# Altium schematic symbol library Orion Sleep - Control Board - Rev 2.SCHLIB: 156 symbols (part 3 of 3)
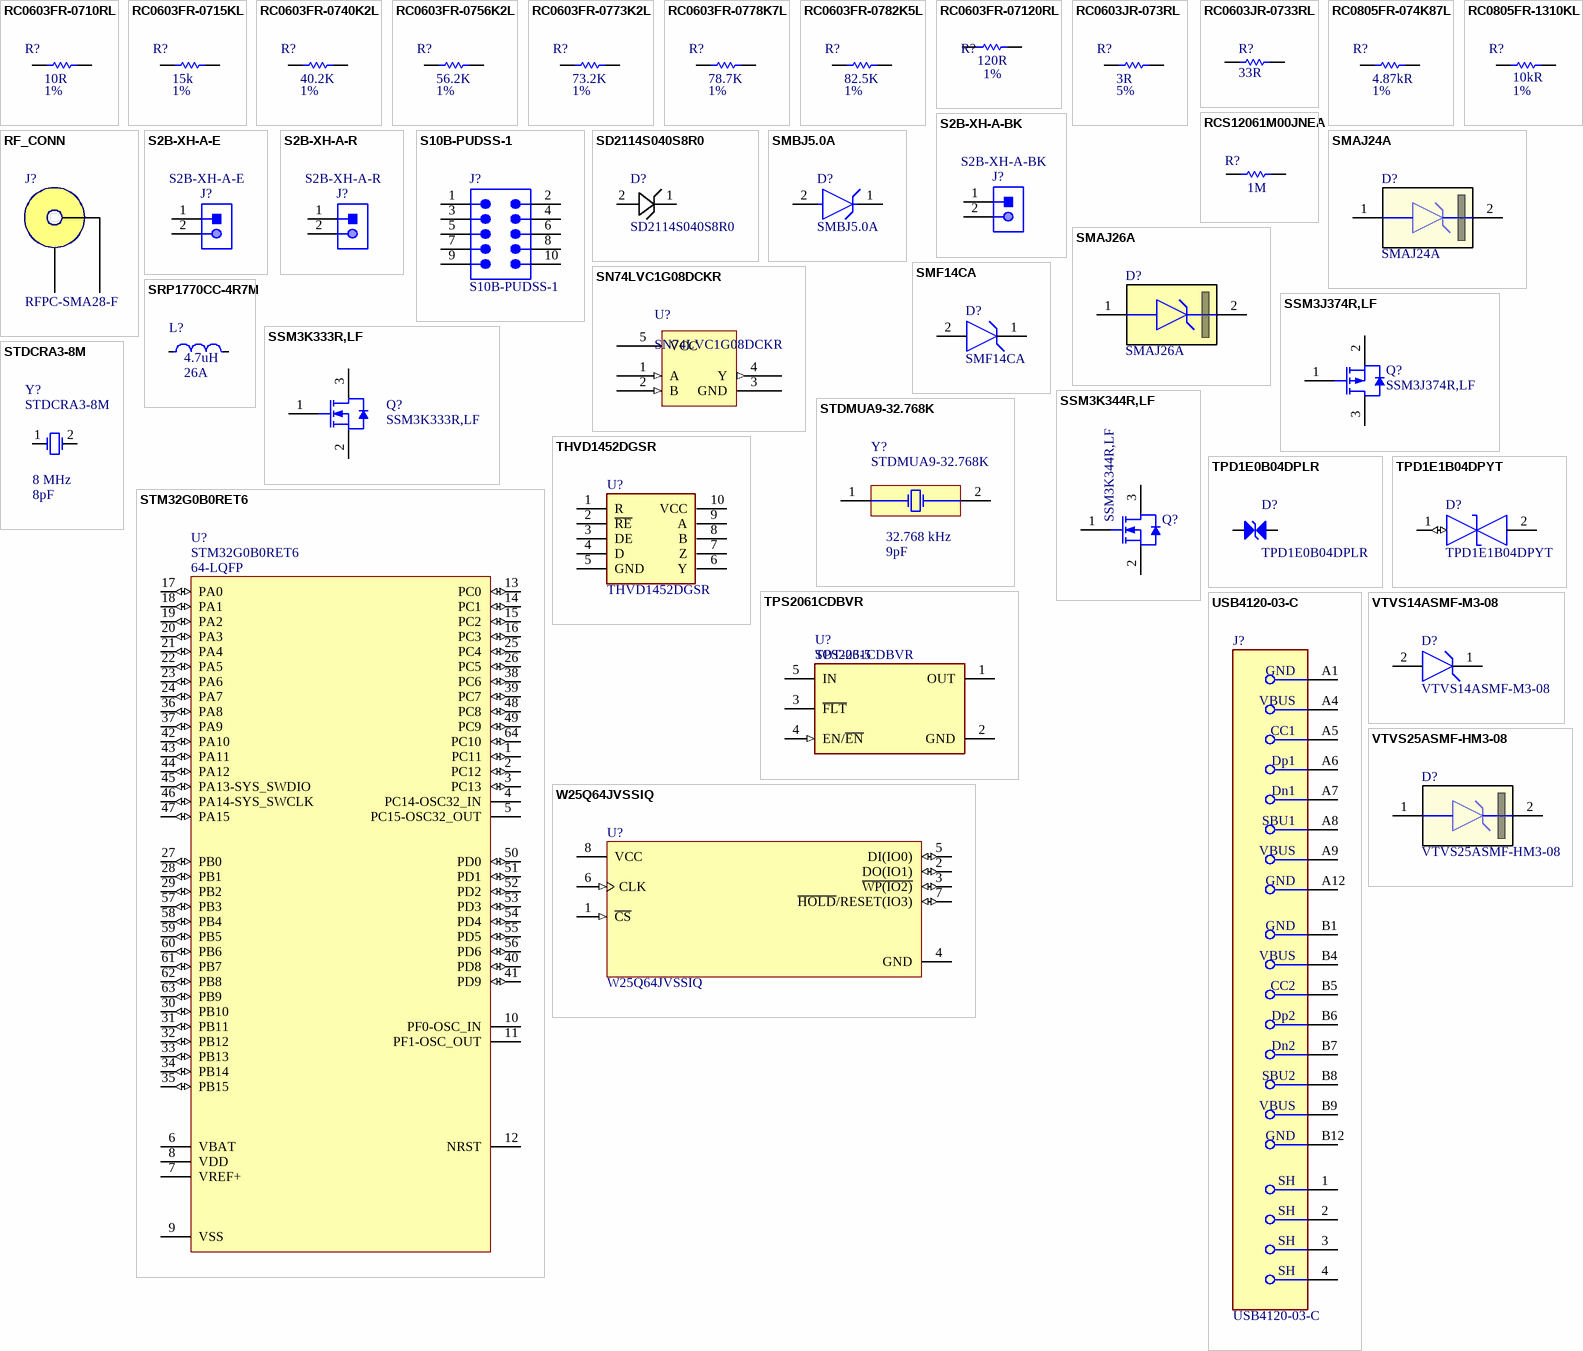
[diagram p5: symbols RC0603FR-0710RL to W25Q64JVSSIQ]

## THVD1452DGSR
designator U?
IC TRANSCEIVER FULL 1/1 10VSSOP; Manufacturer 1: Texas Instruments; Manufacturer Part Number 1: THVD1452DGSR; Supplier 1: Digikey; Supplier Part Number 1: 296-THVD1452DGSRCT-ND
footprint SOP50P490X110-10N
pins: 1 R, 2 ~{RE}, 3 DE, 4 D, 5 GND, 6 Y, 7 Z, 8 B, 9 A, 10 VCC

## TPD1E0B04DPLR
designator D?
TVS DIODE 3.6VWM 10.1VC 2X2SON; Manufacturer 1: Texas Instruments; Voltage - Reverse Standoff (Typ): 3.6V; Voltage - Breakdown (Min): 6.7V; Case/Package: 0201; Manufacturer Part Number 1: TPD1E0B04DPLR; Supplier 1: Digikey; Supplier Part Number 1: 296-50584-1-ND
footprint DPL0002A-MFG (DPL (R-PX2SON-N2) Texas Instruments)
pins: 1, 2

## TPD1E1B04DPYT
designator D?
8.5V (Typ) Clamp 6.3A (8/20µs) Ipp Tvs Diode Surface Mount 2-X1SON (1x.60); Manufacturer 1: Texas Instruments; Voltage - Reverse Standoff (Typ): 3.6V; Voltage - Breakdown (Min): 6.4V; Case/Package: 0402; Manufacturer Part Number 1: TPD1E1B04DPYT; Supplier 1: Digikey; Supplier Part Number 1: 296-46892-6-ND
footprint FP-DPY0002A-MFG
pins: 1 1 IO (io), 2 2 IO (power)

## TPS2061CDBVR
designator U?  Case/Package: SOT-23-5
Power Switch/Driver 1:1 N-Channel 1A SOT-23-5; Manufacturer 1: Texas Instruments; Manufacturer Part Number 1: TPS2061CDBVR; Supplier 1: Digikey; Supplier Part Number 1: 296-39352-6-ND
footprint FP-DBV0005A-IPC_C
pins: 1 OUT (power), 2 GND (power), 3 ~{FLT} (oe), 4 EN/~{EN} (in), 5 IN (power)

## USB4120-03-C
designator J?
USB-C (USB TYPE-C) USB 2.0 Receptacle Connector 24 (16+8 Dummy) Position Surface Mount, Through Hole; Manufacturer 1: GCT; Manufacturer Part Number 1: USB4120-03-C; Supplier 1: Digikey; Supplier Part Number 1: 2073-USB4120-03-CDKR-ND
footprint FP-USB4120-03-C-MFG (16 Position 48 VDC USB Type C Vertical USB 2.0 Receptacle Connector)
pins: 1 SH (power), 2 SH (power), 3 SH (power), 4 SH (power), A1 GND (power), A4 VBUS (power), A5 CC1, A6 Dp1, A7 Dn1, A8 SBU1, A9 VBUS (power), A12 GND (power), B1 GND (power), B4 VBUS (power), B5 CC2, B6 Dp2, B7 Dn2, B8 SBU2, B9 VBUS (power), B12 GND (power)

## VTVS14ASMF-M3-08
designator D?
22.2V Clamp 17.16A Ipp Tvs Diode Surface Mount DO-219AB (SMF); Manufacturer 1: Vishay General Semiconductor - Diodes Division; Manufacturer Part Number 1: VTVS14ASMF-M3-08; Supplier 1: Digikey; Supplier Part Number 1: 112-VTVS14ASMF-M3-08CT-ND
footprint SMF
pins: 1 C, 2 A

## VTVS25ASMF-HM3-08
designator D?
42V Clamp 9.07A Ipp Tvs Diode Surface Mount DO-219AB (SMF); Manufacturer 1: Vishay General Semiconductor - Diodes Division; Supplier 1: Digikey; Supplier Part Number 1: 112-VTVS25ASMF-HM3-08CT-ND; Manufacturer Part Number 1: VTVS25ASMF-HM3-08
footprint SMF
pins: 1 A, 2 C

## W25Q64JVSSIQ
designator U?
FLASH - NOR Memory IC 64Mbit SPI - Quad I/O 133 MHz 8-SOIC; Manufacturer 1: Winbond Electronics; Memory Size: 8MB; Max Supply Voltage: 3.6V; Min Supply Voltage: 2.7V; Frequency: 133MHz; Access Time: 6ns; Memory Type: FLASH; Height: 800µm; Max Operating Temperature: 85°C; Interface: SPI; Ambient Temperature Range High: 85°C; Min Operating Temperature: -40°C; Manufacturer Part Number 1: W25Q64JVSSIQ; Supplier 1: Digikey; Supplier Part Number 1: W25Q64JVSSIQ-ND; Manufacturer 2: Renesas; Manufacturer Part Number 2: AT25SF641B-SHB-T; Supplier 2: Digikey; Supplier Part Number 2: 1265-AT25SF641B-SHB-TCT-ND
footprint SOIC-8_5P28X5P28_WIN (8-Pin SOIC 208-mil (Package Code SS))
pins: 1 ~{CS} (in), 2 DO(IO1) (io), 3 ~{WP(IO2)} (io), 4 GND (power), 5 DI(IO0) (io), 6 CLK (in), 7 ~{HOLD}/RESET(IO3) (io), 8 VCC (power)